# Altium schematic symbol library rs232.SchLib: 18 symbols
Pins are listed as number, name and electrical type; pins without a type are passive.

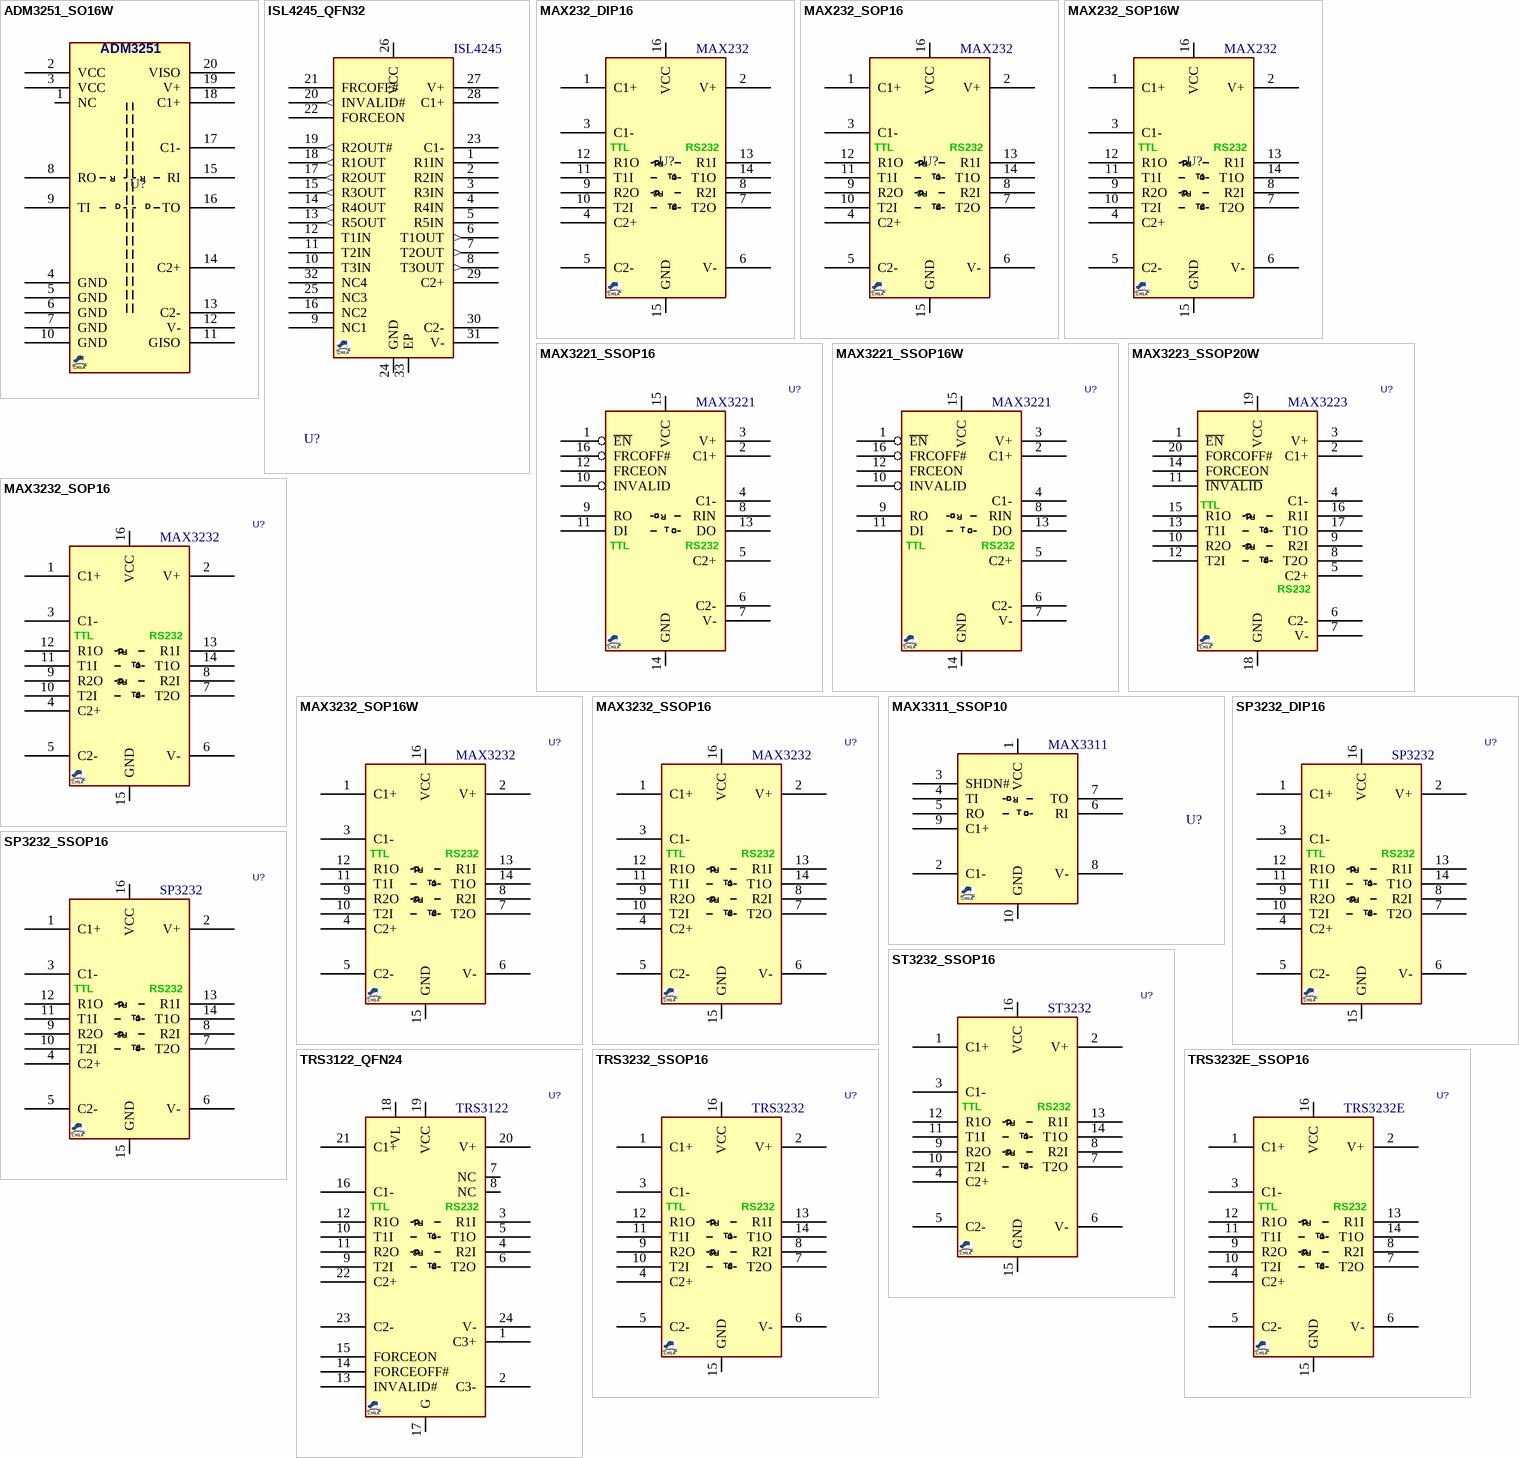
[diagram p0: symbols ADM3251_SO16W to TRS3232E_SSOP16]

## ADM3251_SO16W
designator U?, comment ADM3251  (value not drawn)
RS-485 Transceiver, Isolated, iIntegrated Transformer Driver, 460kbps; MANF: Analog Devices; MANF_P#: ADM3251EARWZ; PARAM2: 5/3.3 (VDD1); PARAM: 2.5KV Isolating, 460kbps, -40~85°C; PRICE: 7$; VALUE: ADM3251
footprint SO_20_W (SOP, SOIC, 7.5mm width, 1.27mm pitch,)
pins: 1 NC, 2 VCC, 3 VCC, 4 GND, 5 GND, 6 GND, 7 GND, 8 RO, 9 TI, 10 GND, 11 GISO, 12 V-, 13 C2-, 14 C2+, 15 RI, 16 TO, 17 C1-, 18 C1+, 19 V+, 20 VISO
text: R; D

## ISL4245_QFN32
designator U?, comment ISL4245
RS-232, MULTIPLE, +3V, Driver/Receiver, 32-QFN; MANF_PART#: ISL4245EIRZ; PARAM2: 2.7 V ~ 5.5 V; MANF: Intersil; PARAM: PARAM; PRICE: 1=6.44, 25=5.23, 100=3.65 (USD); VALUE: ISL4245
footprint QFN32 5x5x0.85
pins: 1 R1IN, 2 R2IN, 3 R3IN, 4 R4IN, 5 R5IN, 6 T1OUT (out), 7 T2OUT (out), 8 T3OUT (out), 9 NC1, 10 T3IN, 11 T2IN, 12 T1IN, 13 R5OUT (out), 14 R4OUT (out), 15 R3OUT (out), 16 NC2, 17 R2OUT (out), 18 R1OUT (out), 19 R2OUT# (out), 20 INVALID# (out), 21 FRCOFF#, 22 FORCEON, 23 C1-, 24 GND (power), 25 NC3, 26 VCC (power), 27 V+, 28 C1+, 29 C2+, 30 C2-, 31 V-, 32 NC4, 33 EP (power)

## MAX232_DIP16
designator U?, comment MAX232
RS-232, DUAL, +5V, Driver/Receiver; MANF_PART#: MAX232N, MAX232ACPE; MANF: Texas Instruments, Maxim Integrated; PARAM: PARAM; PRICE: 1500toman@PAYA; VALUE: MAX232
footprint DIP_16 (DIP, pitch 2.54mm, 300mil Width)
pins: 1 C1+, 2 V+, 3 C1-, 4 C2+, 5 C2-, 6 V-, 7 T2O, 8 R2I, 9 R2O, 10 T2I, 11 T1I, 12 R1O, 13 R1I, 14 T1O, 15 GND (power), 16 VCC (power)
text: TTL; RS232; R1; R2; T1; T2

## MAX232_SOP16
designator U?, comment MAX232
RS-232, DUAL, +5V, Driver/Receiver; MANF_PART#: MAX232ACSE; MANF: Maxim Integrated; PARAM: PARAM; PRICE: 2000toman@PAYA; VALUE: MAX232
footprint SO_16
pins: 1 C1+, 2 V+, 3 C1-, 4 C2+, 5 C2-, 6 V-, 7 T2O, 8 R2I, 9 R2O, 10 T2I, 11 T1I, 12 R1O, 13 R1I, 14 T1O, 15 GND (power), 16 VCC (power)
text: TTL; RS232; R1; R2; T1; T2

## MAX232_SOP16W
designator U?, comment MAX232
RS-232, DUAL, +5V, Driver/Receiver; MANF_PART#: MAX232EWE; MANF: Maxim Integrated; PARAM: PARAM; PRICE: 3200toman@JAVAN; VALUE: MAX232
footprint SO_16_W
pins: 1 C1+, 2 V+, 3 C1-, 4 C2+, 5 C2-, 6 V-, 7 T2O, 8 R2I, 9 R2O, 10 T2I, 11 T1I, 12 R1O, 13 R1I, 14 T1O, 15 GND (power), 16 VCC (power)
text: TTL; RS232; R1; R2; T1; T2

## MAX3221_SSOP16
designator U?, comment MAX3221
RS-232, SINGLE CH, +3~5V, Driver/Receiver,; MANF_PART#: MAX3221ECPWR; MANF: Texas Instruments; PARAM2: +3~5.5V; PARAM: PARAM; VALUE: MAX3221
footprint SOG65_16 (PW TSSOP (TI), MO-153-AB (JEDEC), 16Lead, pitch: 0.65mm, 5x4.4x1.2mm)
pins: 1 ~{EN}, 2 C1+, 3 V+, 4 C1-, 5 C2+, 6 C2-, 7 V-, 8 RIN, 9 RO, 10 INVALID, 11 DI, 12 FRCEON, 13 DO, 14 GND (power), 15 VCC (power), 16 FRCOFF#
text: R; T; TTL; RS232

## MAX3221_SSOP16W
designator U?, comment MAX3221
RS-232, SINGLE CH, +3~5V, Driver/Receiver,; MANF_PART#: MAX3221CAE; MANF: Maxim Integrated; PARAM2: +3~5.5V; PARAM: PARAM; VALUE: MAX3221
footprint SOG65_16_W (SSOP16, SOT338-1, SOT403-1, RU-16, pitch: 0.65mm, 5x5.3mm, GN16, MO-150AC)
pins: 1 ~{EN}, 2 C1+, 3 V+, 4 C1-, 5 C2+, 6 C2-, 7 V-, 8 RIN, 9 RO, 10 INVALID, 11 DI, 12 FRCEON, 13 DO, 14 GND (power), 15 VCC (power), 16 FRCOFF#
text: R; T; TTL; RS232

## MAX3223_SSOP20W
designator U?, comment MAX3223
RS-232, DUAL, +3~5V, Driver/Receiver, Low-Power, up to 1Mbps, Using Four 0.1µF External Capacitor; MANF_PART#: MAX3223ECAP+; MANF: Maxim Integrated; PARAM2: +3~5.5V; PARAM: PARAM; VALUE: MAX3223
footprint SOG65_20_W (SSOP20, TSSOP20, RU-20, RQ-20, pitch: 0.65mm, 7X5.3mm, QSP, SOT339-1, SOT266-1, AT-260, TSSO6X6-G20, NP20, MO-153AC, MO-150AE, MO-137-AD, MO-152)
pins: 1 ~{EN}, 2 C1+, 3 V+, 4 C1-, 5 C2+, 6 C2-, 7 V-, 8 T2O, 9 R2I, 10 R2O, 11 ~{INVALID}, 12 T2I, 13 T1I, 14 FORCEON, 15 R1O, 16 R1I, 17 T1O, 18 GND, 19 VCC, 20 FORCOFF#
text: TTL; R1; R2; T1; T2; RS232

## MAX3232_SOP16
designator U?, comment MAX3232
RS-232, DUAL, +3~5V, Driver/Receiver, Low-Power, up to 1Mbps, Using Four 0.1µF External Capacitor; MANF_PART#: MAX3232CSE+; MANF: Maxim Integrated; PARAM2: +3~5.5V; PARAM: PARAM; VALUE: MAX3232
footprint SO_16 (SOP, SOIC, 3.9mm wide, 1.27mm pitch,)
pins: 1 C1+, 2 V+, 3 C1-, 4 C2+, 5 C2-, 6 V-, 7 T2O, 8 R2I, 9 R2O, 10 T2I, 11 T1I, 12 R1O, 13 R1I, 14 T1O, 15 GND (power), 16 VCC (power)
text: TTL; RS232; R1; R2; T1; T2

## MAX3232_SOP16W
designator U?, comment MAX3232
RS-232, DUAL, +3~5V, Driver/Receiver, Low-Power, up to 1Mbps, Using Four 0.1µF External Capacitor; MANF_PART#: MAX3232ECWE+; MANF: Maxim Integrated; PARAM2: +3~5.5V; PARAM: PARAM; VALUE: MAX3232
footprint SO_16_W (SOP, SOIC, 7.5mm wide, 1.27mm pitch,)
pins: 1 C1+, 2 V+, 3 C1-, 4 C2+, 5 C2-, 6 V-, 7 T2O, 8 R2I, 9 R2O, 10 T2I, 11 T1I, 12 R1O, 13 R1I, 14 T1O, 15 GND (power), 16 VCC (power)
text: TTL; RS232; R1; R2; T1; T2

## MAX3232_SSOP16
designator U?, comment MAX3232
RS-232, DUAL, +3~5V, Driver/Receiver, Low-Power, up to 1Mbps, Using Four 0.1µF External Capacitor; MANF_PART#: MAX3232EIPW, MAX3232EUE+; MANF: TI, Maxim Integrated; PARAM2: +3~5.5V; PARAM: PARAM; VALUE: MAX3232
footprint SOG65_16 (PW TSSOP (TI), MO-153-AB (JEDEC), 16Lead, pitch: 0.65mm, 5x4.4x1.2mm)
pins: 1 C1+, 2 V+, 3 C1-, 4 C2+, 5 C2-, 6 V-, 7 T2O, 8 R2I, 9 R2O, 10 T2I, 11 T1I, 12 R1O, 13 R1I, 14 T1O, 15 GND (power), 16 VCC (power)
text: TTL; RS232; R1; R2; T1; T2

## MAX3311_SSOP10
designator U?, comment MAX3311
RS-232, SINGLE, +5V, Driver/Receiver; MANF_PART#: MAX3311CUB; MANF: Maxim Integrated; PARAM: PARAM; VALUE: MAX3311
footprint SOG50_10 (MSSOP10, 3X3mm 0.5mm pitch, S-PDSO10_S300-50, MSOP10, 10uSOP/usop10 (Dallas), MO-187BA(JEDEC))
pins: 1 VCC (power), 2 C1-, 3 SHDN#, 4 TI, 5 RO, 6 RI, 7 TO, 8 V-, 9 C1+, 10 GND (power)
text: R; T

## SP3232_DIP16
designator U?, comment SP3232
RS-232, DUAL, +3~5V, Driver/Receiver; MANF_PART#: SP3232ECP-L; MANF: SIPEX, EXAR; PARAM: PARAM; PRICE: 3000toman@PAYA; VALUE: SP3232
footprint DIP_16 (DIP, pitch 2.54mm, 300mil Width)
pins: 1 C1+, 2 V+, 3 C1-, 4 C2+, 5 C2-, 6 V-, 7 T2O, 8 R2I, 9 R2O, 10 T2I, 11 T1I, 12 R1O, 13 R1I, 14 T1O, 15 GND (power), 16 VCC (power)
text: TTL; RS232; R1; R2; T1; T2

## SP3232_SSOP16
designator U?, comment SP3232
RS-232, DUAL, +3~5V, Driver/Receiver; MANF_PART#: SP3232ECA-L, SP3232EUCA; MANF: SIPEX; PARAM: PARAM; VALUE: SP3232
footprint SOG65_16_W (SSOP16, SOT338-1, SOT403-1, RU-16, pitch: 0.65mm, 5x5.3mm, GN16, MO-150AC)
pins: 1 C1+, 2 V+, 3 C1-, 4 C2+, 5 C2-, 6 V-, 7 T2O, 8 R2I, 9 R2O, 10 T2I, 11 T1I, 12 R1O, 13 R1I, 14 T1O, 15 GND (power), 16 VCC (power)
text: TTL; RS232; R1; R2; T1; T2

## ST3232_SSOP16
designator U?, comment ST3232
RS-232, DUAL, +3~5V, Driver/Receiver; MANF_PART#: ST3232CTR; MANF: ST; PARAM2: +3~5.5V; PARAM: PARAM; PRICE: 1$; VALUE: ST3232
footprint SOG65_16 (PW TSSOP (TI), MO-153-AB (JEDEC), 16Lead, pitch: 0.65mm, 5x4.4x1.2mm)
pins: 1 C1+, 2 V+, 3 C1-, 4 C2+, 5 C2-, 6 V-, 7 T2O, 8 R2I, 9 R2O, 10 T2I, 11 T1I, 12 R1O, 13 R1I, 14 T1O, 15 GND (power), 16 VCC (power)
text: TTL; RS232; R1; R2; T1; T2

## TRS3122_QFN24
designator U?, comment TRS3122
RS-232, DUAL, 1.8/3.3/5V, Driver/Receiver; MANF_PART#: TRS3122ERGER, TRS3122ERGET; MANF: TI; PARAM2: 1.8/3.3/5V; PRICE: 2.6$; VALUE: TRS3122
footprint QFN50_24T (MO-220 (JEDEC), RGE S-PQFP-N24 (TI), 4X4mm, 0.5mm, HVQFN24)
pins: 1 C3+, 2 C3-, 3 R1I, 4 R2I, 5 T1O, 6 T2O, 7 NC, 8 NC, 9 T2I, 10 T1I, 11 R2O, 12 R1O, 13 INVALID#, 14 FORCEOFF#, 15 FORCEON, 16 C1-, 17 G, 18 VL, 19 VCC, 20 V+, 21 C1+, 22 C2+, 23 C2-, 24 V-
text: TTL; RS232; R1; R2; T1; T2

## TRS3232_SSOP16
designator U?, comment TRS3232
RS-232, DUAL, +3~5V, Driver/Receiver, 250kbps; MANF_PART#: TRS3232IPW; MANF: TI; PARAM2: +3~5.5V; PARAM: 250kbps, -40~85°C; PRICE: 2$; VALUE: TRS3232
footprint SOG65_16 (PW TSSOP (TI), MO-153-AB (JEDEC), 16Lead, pitch: 0.65mm, 5x4.4x1.2mm)
pins: 1 C1+, 2 V+, 3 C1-, 4 C2+, 5 C2-, 6 V-, 7 T2O, 8 R2I, 9 R2O, 10 T2I, 11 T1I, 12 R1O, 13 R1I, 14 T1O, 15 GND (power), 16 VCC (power)
text: TTL; RS232; R1; R2; T1; T2

## TRS3232E_SSOP16
designator U?, comment TRS3232E
RS-232, DUAL, +3~5V, Driver/Receiver, 250kbps; MANF_PART#: TRS3232EIPW; MANF: TI; PARAM2: +3~5.5V, Interoperable down to 2.7VCC; PARAM: 250kbps, -40~85°C; PRICE: 2$; VALUE: TRS3232E
footprint SOG65_16 (PW TSSOP (TI), MO-153-AB (JEDEC), 16Lead, pitch: 0.65mm, 5x4.4x1.2mm)
pins: 1 C1+, 2 V+, 3 C1-, 4 C2+, 5 C2-, 6 V-, 7 T2O, 8 R2I, 9 R2O, 10 T2I, 11 T1I, 12 R1O, 13 R1I, 14 T1O, 15 GND (power), 16 VCC (power)
text: TTL; RS232; R1; R2; T1; T2